# Altium footprint library Radial_8x7mm_SMD_Wurth.PcbLib: 1 footprints
Each footprint in its own frame and in the unit in brackets; x right, y up, seen from the top. Pads: shape width x height; smd on the part's side, far side on the other; paste and mask are expansions set on the pad; w line width, h text height; cw(c..) or ccw(c..) is an arc to the next point about the centre after c.
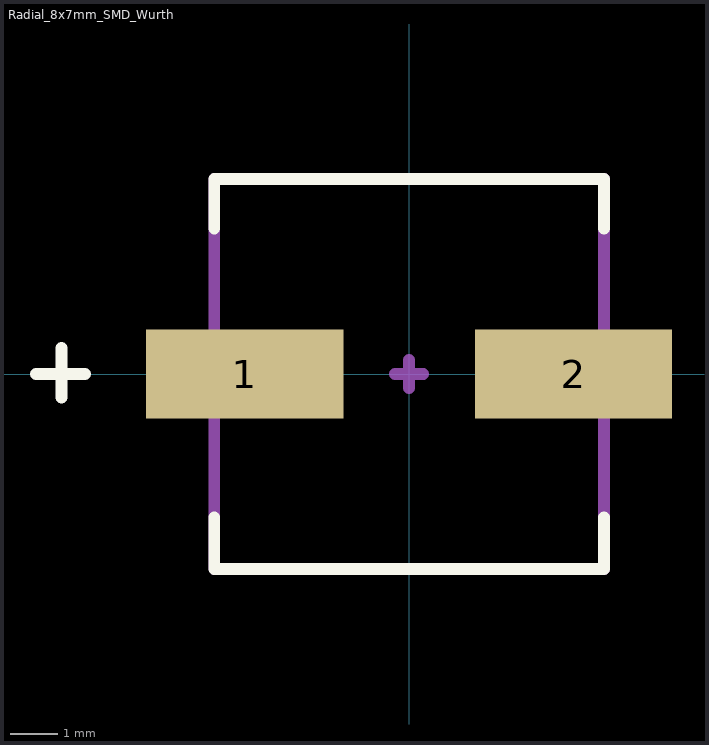
[diagram p0: the footprint, top view; thin cyan lines are the x and y axes]

## Radial_8x7mm_SMD_Wurth [mm]
pads (2):
  rect 4.2x1.9 smd: 1(-3.5,0) 2(3.5,0)
Top Overlay:
  lines w0.254: -7.95,0 -6.9,0 ; -7.4,-0.5 -7.4,0.55 ; -4.15,-4.15 4.15,-4.15 ; -4.15,-4.1 -4.15,-3.05 ; -4.15,3.1 -4.15,4.15 4.15,4.15 4.15,3.1 ; 4.15,-4.1 4.15,-3.05
Mechanical 13:
  lines w0.254: -4.15,-4.15 -4.15,4.15 4.15,4.15 4.15,-4.15 -4.15,-4.15
Mechanical 15:
  lines w0.254: -0.3,0 0.3,0 ; 0,-0.3 0,0.3